# Altium footprint library GC6123.PcbLib: 1 footprints
Each footprint in its own frame and in the unit in brackets; x right, y up, seen from the top. Pads: shape width x height; smd on the part's side, far side on the other; paste and mask are expansions set on the pad; w line width, h text height; cw(c..) or ccw(c..) is an arc to the next point about the centre after c.
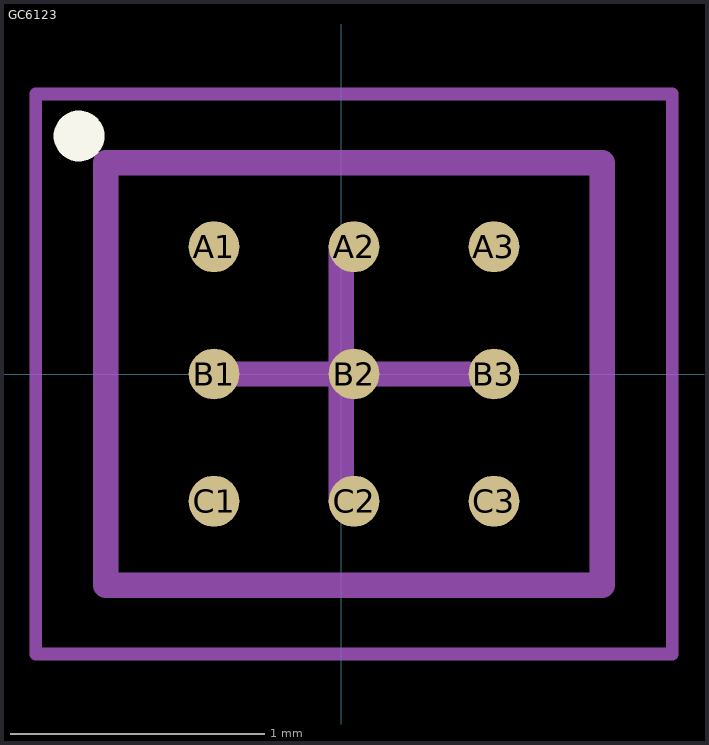
[diagram p0: the footprint, top view; thin cyan lines are the x and y axes]

## GC6123 [mm] "CMOS Image Sensor, 328 x 244"
height 0.8
pads (9):
  round 0.2 smd: A1(-0.5,0.5) A2(0.05,0.5) A3(0.6,0.5) B1(-0.5,0) B2(0.05,0) B3(0.6,0) C1(-0.5,-0.5) C2(0.05,-0.5) C3(0.6,-0.5)
Top Overlay:
  circle w0.1: c-1.03,0.935 r0.05
Mechanical 13:
  lines w0.1: -0.925,-0.83 1.025,-0.83 1.025,0.83 -0.925,0.83 -0.925,-0.83
Mechanical 15:
  lines w0.05: -1.2,-1.1 1.3,-1.1 1.3,1.1 -1.2,1.1 -1.2,-1.1
  lines w0.1: -0.5,0 0.5,0 ; 0,-0.5 0,0.5
3D body "BGA9C50P3X3_185X166X80.step": height 0.8, standoff 0, extent -0.88,-0.83 0.97,0.83